# Altium footprint library DB_CONN.PcbLib: 18 footprints (part 2 of 2)
Each footprint in its own frame and in the unit in brackets; x right, y up, seen from the top. Pads: shape width x height; smd on the part's side, far side on the other; paste and mask are expansions set on the pad; w line width, h text height; cw(c..) or ccw(c..) is an arc to the next point about the centre after c.
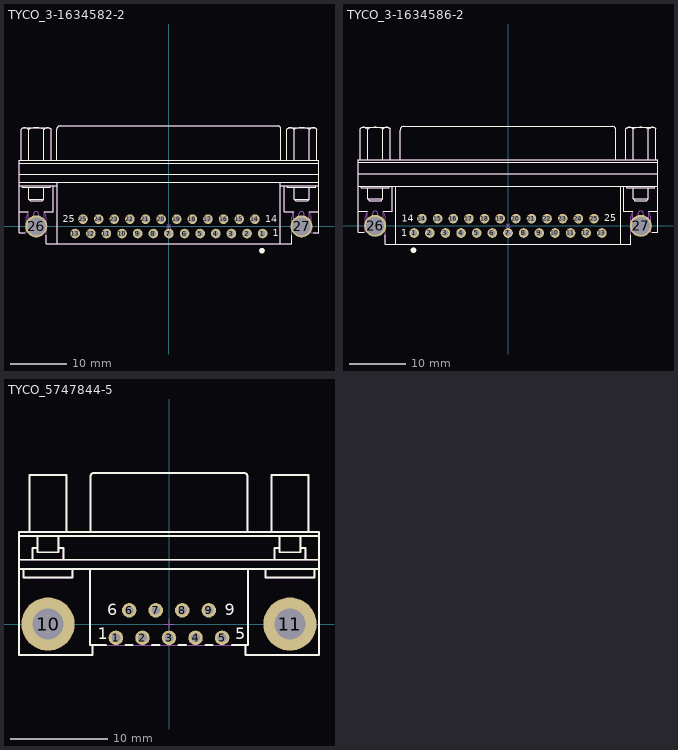
[diagram p1: the footprints below, top view; thin cyan lines are the x and y axes]

## TYCO_3-1634582-2 [mm] "Right Angle 25 Male Contacts D-SUB Connector With Boardlock and 4-40 UNC Screwlocks"
height 13.575
pads (27):
  round 1.7 hole 1: 1(16.62,-1.27) 2(13.85,-1.27) 3(11.08,-1.27) 4(8.31,-1.27) 5(5.54,-1.27) 6(2.77,-1.27) 7(0,-1.27) 8(-2.77,-1.27) 9(-5.54,-1.27) 10(-8.31,-1.27) 11(-11.08,-1.27) 12(-13.85,-1.27) 13(-16.62,-1.27) 14(15.235,1.27) 15(12.465,1.27) 16(9.695,1.27) 17(6.925,1.27) 18(4.155,1.27) 19(1.385,1.27) 20(-1.385,1.27) 21(-4.155,1.27) 22(-6.925,1.27) 23(-9.695,1.27) 24(-12.465,1.27) 25(-15.235,1.27)
  round 3.9 hole 3.2: 26(-23.52,0) 27(23.52,0)
Top Overlay:
  circle w0.5: c16.495,-4.305 r0.25
  lines w0.2: -26.567,2.62 -24.927,2.62 ; -26.567,7.21 -19.772,7.21 ; -26.567,7.85 26.533,7.85 ; -26.567,11.23 26.533,11.23 ; -26.525,9.2 26.533,9.2 ; -26.187,11.7 -26.187,17.2 -25.887,17.5 -21.187,17.5 -20.889,17.2 ; -26.184,17.2 cw(c-25.495,16.568) -25.572,17.5 cw(c-25.649,16.568) -24.959,17.2 -24.761,17.2 cw(c-23.537,14.767) -22.312,17.2 -22.114,17.2 cw(c-21.424,16.568) -21.501,17.5 cw(c-21.579,16.568) -20.889,17.2 ; -26.037,7.21 -26.037,6.96 -21.037,6.96 -21.037,7.21 ; -25.569,-1.15 -26.567,-1.15 -26.567,11.7 26.533,11.7 26.533,-1.15 25.569,-1.15 ; -24.877,6.96 -24.877,4.8 ; -24.862,11.7 -24.862,17.2 ; -22.212,11.7 -22.212,17.2 ; -22.197,6.96 -22.197,4.8 ; -22.147,2.62 -20.507,2.62 -20.507,7.21 ; -21.777,-1.576 -21.777,-3.08 21.743,-3.08 21.743,-1.538 ; -20.889,11.7 -20.889,17.2 ; -19.894,11.7 -19.894,17.2 cw(c-19.294,17.2) -19.294,17.8 19.263,17.8 cw(c19.263,17.2) 19.863,17.2 19.863,11.7 ; -19.772,-3.08 -19.772,7.85 ; 19.738,-3.08 19.738,7.85 ; 19.738,7.21 26.533,7.21 ; 20.473,7.21 20.473,2.62 22.113,2.62 ; 20.913,11.7 20.913,17.209 21.213,17.509 25.913,17.509 26.211,17.209 ; 20.916,17.209 cw(c21.605,16.577) 21.528,17.509 cw(c21.451,16.577) 22.141,17.209 22.339,17.209 cw(c23.563,14.777) 24.788,17.209 24.986,17.209 cw(c25.676,16.577) 25.599,17.509 cw(c25.522,16.577) 26.211,17.209 ; 21.003,7.21 21.003,6.96 26.003,6.96 26.003,7.21 ; 22.223,6.96 22.223,4.8 ; 22.238,11.7 22.238,17.209 ; 24.888,11.7 24.888,17.209 ; 24.893,2.62 26.533,2.62 ; 24.903,6.96 24.903,4.8 ; 26.211,11.7 26.211,17.209 ; -24.877,4.8 -24.577,4.5 -22.497,4.5 -22.197,4.8 ; -24.877,4.8 -22.197,4.8 ; 22.223,4.8 22.523,4.5 24.603,4.5 24.903,4.8 ; 22.223,4.8 24.903,4.8
  text "14" at 17.04,0.77 h1.2
  text "25" at -18.86,0.72 h1.2
  text "1" at 18.425,-1.77 h1.2
Mechanical 8:
  lines w0.1: -24.02,0 -23.52,0 ; -23.52,-0.5 -23.52,0 ; -23.52,0.5 -23.52,0 ; -23.02,0 -23.52,0 ; -17.12,-1.27 -16.62,-1.27 ; -16.62,-1.77 -16.62,-1.27 ; -16.62,-0.77 -16.62,-1.27 ; -16.12,-1.27 -16.62,-1.27 ; -15.735,1.27 -15.235,1.27 ; -15.235,0.77 -15.235,1.27 ; -15.235,1.77 -15.235,1.27 ; -14.735,1.27 -15.235,1.27 ; -14.35,-1.27 -13.85,-1.27 ; -13.85,-1.77 -13.85,-1.27 ; -13.85,-0.77 -13.85,-1.27 ; -13.35,-1.27 -13.85,-1.27 ; -12.965,1.27 -12.465,1.27 ; -12.465,0.77 -12.465,1.27 ; -12.465,1.77 -12.465,1.27 ; -11.965,1.27 -12.465,1.27 ; -11.58,-1.27 -11.08,-1.27 ; -11.08,-1.77 -11.08,-1.27 ; -11.08,-0.77 -11.08,-1.27 ; -10.58,-1.27 -11.08,-1.27 ; -10.195,1.27 -9.695,1.27 ; -9.695,0.77 -9.695,1.27 ; -9.695,1.77 -9.695,1.27 ; -9.195,1.27 -9.695,1.27 ; -8.81,-1.27 -8.31,-1.27 ; -8.31,-1.77 -8.31,-1.27 ; -8.31,-0.77 -8.31,-1.27 ; -7.81,-1.27 -8.31,-1.27 ; -7.425,1.27 -6.925,1.27 ; -6.925,0.77 -6.925,1.27 ; -6.925,1.77 -6.925,1.27 ; -6.425,1.27 -6.925,1.27 ; -6.04,-1.27 -5.54,-1.27 ; -5.54,-1.77 -5.54,-1.27 ; -5.54,-0.77 -5.54,-1.27 ; -5.04,-1.27 -5.54,-1.27 ; -4.655,1.27 -4.155,1.27 ; -4.155,0.77 -4.155,1.27 ; -4.155,1.77 -4.155,1.27 ; -3.655,1.27 -4.155,1.27 ; -3.27,-1.27 -2.77,-1.27 ; -2.77,-1.77 -2.77,-1.27 ; -2.77,-0.77 -2.77,-1.27 ; -2.27,-1.27 -2.77,-1.27 ; -1.885,1.27 -1.385,1.27 ; -1.385,0.77 -1.385,1.27 ; -1.385,1.77 -1.385,1.27 ; -0.885,1.27 -1.385,1.27 ; -0.5,-1.27 0,-1.27 ; -0.354,-0.354 0,0 ; -0.354,0.354 0,0 ; 0,-1.77 0,-1.27 ; 0,-0.77 0,-1.27 ; 0.354,-0.354 0,0 ; 0.354,0.354 0,0 ; 0.5,-1.27 0,-1.27 ; 0.885,1.27 1.385,1.27 ; 1.385,0.77 1.385,1.27 ; 1.385,1.77 1.385,1.27 ; 1.885,1.27 1.385,1.27 ; 2.27,-1.27 2.77,-1.27 ; 2.77,-1.77 2.77,-1.27 ; 2.77,-0.77 2.77,-1.27 ; 3.27,-1.27 2.77,-1.27 ; 3.655,1.27 4.155,1.27 ; 4.155,0.77 4.155,1.27 ; 4.155,1.77 4.155,1.27 ; 4.655,1.27 4.155,1.27 ; 5.04,-1.27 5.54,-1.27 ; 5.54,-1.77 5.54,-1.27 ; 5.54,-0.77 5.54,-1.27 ; 6.04,-1.27 5.54,-1.27 ; 6.425,1.27 6.925,1.27 ; 6.925,0.77 6.925,1.27 ; 6.925,1.77 6.925,1.27 ; 7.425,1.27 6.925,1.27 ; 7.81,-1.27 8.31,-1.27 ; 8.31,-1.77 8.31,-1.27 ; 8.31,-0.77 8.31,-1.27 ; 8.81,-1.27 8.31,-1.27 ; 9.195,1.27 9.695,1.27 ; 9.695,0.77 9.695,1.27 ; 9.695,1.77 9.695,1.27 ; 10.195,1.27 9.695,1.27 ; 10.58,-1.27 11.08,-1.27 ; 11.08,-1.77 11.08,-1.27 ; 11.08,-0.77 11.08,-1.27 ; 11.58,-1.27 11.08,-1.27 ; 11.965,1.27 12.465,1.27 ; 12.465,0.77 12.465,1.27 ; 12.465,1.77 12.465,1.27 ; 12.965,1.27 12.465,1.27 ; 13.35,-1.27 13.85,-1.27 ; 13.85,-1.77 13.85,-1.27 ; 13.85,-0.77 13.85,-1.27 ; 14.35,-1.27 13.85,-1.27 ; 14.735,1.27 15.235,1.27 ; 15.235,0.77 15.235,1.27 ; 15.235,1.77 15.235,1.27 ; 15.735,1.27 15.235,1.27 ; 16.12,-1.27 16.62,-1.27 ; 16.62,-1.77 16.62,-1.27 ; 16.62,-0.77 16.62,-1.27 ; 17.12,-1.27 16.62,-1.27 ; 23.02,0 23.52,0 ; 23.52,-0.5 23.52,0 ; 23.52,0.5 23.52,0 ; 24.02,0 23.52,0
Mechanical 14:
  lines w0.1: -26.567,2.62 -24.927,2.62 -24.927,-0.32 -23.987,-0.32 -23.987,2.17 cw(c-23.537,2.17) -23.087,2.17 -23.087,-0.32 -22.147,-0.32 -22.147,2.62 -20.507,2.62 -20.507,7.21 ; -26.567,7.21 -19.772,7.21 ; -26.567,7.85 26.533,7.85 ; -26.567,11.23 26.533,11.23 ; -26.525,9.2 26.533,9.2 ; -26.187,11.7 -26.187,17.2 -25.887,17.5 -21.187,17.5 -20.889,17.2 ; -26.184,17.2 cw(c-25.495,16.568) -25.572,17.5 cw(c-25.649,16.568) -24.959,17.2 -24.761,17.2 cw(c-23.537,14.767) -22.312,17.2 -22.114,17.2 cw(c-21.424,16.568) -21.501,17.5 cw(c-21.579,16.568) -20.889,17.2 ; -26.037,7.21 -26.037,6.96 -21.037,6.96 -21.037,7.21 ; -24.927,2.6 ccw(c-23.537,1.52) -25.297,1.52 -25.297,-1.15 -26.567,-1.15 -26.567,11.7 26.533,11.7 26.533,-1.15 25.263,-1.15 25.263,1.52 ccw(c23.503,1.52) 24.893,2.6 ; -24.877,6.96 -24.877,4.8 ; -24.862,11.7 -24.862,17.2 ; -22.212,11.7 -22.212,17.2 ; -22.197,6.96 -22.197,4.8 ; -22.147,2.6 cw(c-23.537,1.52) -21.777,1.52 -21.777,-3.08 21.743,-3.08 21.743,1.52 cw(c23.503,1.52) 22.113,2.6 ; -20.889,11.7 -20.889,17.2 ; -19.894,11.7 -19.894,17.2 cw(c-19.294,17.2) -19.294,17.8 19.263,17.8 cw(c19.263,17.2) 19.863,17.2 19.863,11.7 ; -19.772,-3.08 -19.772,7.85 ; 19.738,-3.08 19.738,7.85 ; 19.738,7.21 26.533,7.21 ; 20.473,7.21 20.473,2.62 22.113,2.62 22.113,-0.318 23.053,-0.32 23.053,2.17 cw(c23.503,2.17) 23.953,2.17 23.953,-0.32 24.893,-0.32 24.893,2.62 26.533,2.62 ; 20.913,11.7 20.913,17.209 21.213,17.509 25.913,17.509 26.211,17.209 ; 20.916,17.209 cw(c21.605,16.577) 21.528,17.509 cw(c21.451,16.577) 22.141,17.209 22.339,17.209 cw(c23.563,14.777) 24.788,17.209 24.986,17.209 cw(c25.676,16.577) 25.599,17.509 cw(c25.522,16.577) 26.211,17.209 ; 21.003,7.21 21.003,6.96 26.003,6.96 26.003,7.21 ; 22.223,6.96 22.223,4.8 ; 22.238,11.7 22.238,17.209 ; 24.888,11.7 24.888,17.209 ; 24.903,6.96 24.903,4.8 ; 26.211,11.7 26.211,17.209 ; -24.877,4.8 -24.577,4.5 -22.497,4.5 -22.197,4.8 ; -24.877,4.8 -22.197,4.8 ; 22.223,4.8 22.523,4.5 24.603,4.5 24.903,4.8 ; 22.223,4.8 24.903,4.8
  text "14" at 17.04,0.77 h1.2
  text "25" at -18.86,0.72 h1.2
  text "1" at 18.425,-1.77 h1.2
3D body "TYCO_3-1634582-2.stp": height 13.57, standoff -3.8, extent -26.567,-3.08 26.533,17.8

## TYCO_3-1634586-2 [mm] "Right Angle 25 Female Contacts D-SUB Connector With Boardlock and 4-40 UNC Screwlocks"
height 13.575
pads (27):
  round 1.7 hole 1: 1(-16.62,-1.27) 2(-13.85,-1.27) 3(-11.08,-1.27) 4(-8.31,-1.27) 5(-5.54,-1.27) 6(-2.77,-1.27) 7(0,-1.27) 8(2.77,-1.27) 9(5.54,-1.27) 10(8.31,-1.27) 11(11.08,-1.27) 12(13.85,-1.27) 13(16.62,-1.27) 14(-15.235,1.27) 15(-12.465,1.27) 16(-9.695,1.27) 17(-6.925,1.27) 18(-4.155,1.27) 19(-1.385,1.27) 20(1.385,1.27) 21(4.155,1.27) 22(6.925,1.27) 23(9.695,1.27) 24(12.465,1.27) 25(15.235,1.27)
  round 3.9 hole 3.2: 26(-23.52,0) 27(23.52,0)
Top Overlay:
  circle w0.5: c-16.745,-4.305 r0.25
  lines w0.2: -26.55,2.62 -24.91,2.62 ; -26.55,7.01 26.55,7.01 ; -26.55,11.23 26.55,11.23 ; -26.508,9.2 26.55,9.2 ; -26.17,11.7 -26.17,17.15 -25.87,17.45 -21.17,17.45 -20.872,17.15 ; -26.168,17.15 cw(c-25.478,16.518) -25.555,17.45 cw(c-25.632,16.518) -24.943,17.15 -24.745,17.15 cw(c-23.52,14.717) -22.295,17.15 -22.097,17.15 cw(c-21.408,16.518) -21.485,17.45 cw(c-21.562,16.518) -20.872,17.15 ; -26.02,7.01 -26.02,6.76 -21.02,6.76 -21.02,7.01 ; -25.569,-1.15 -26.55,-1.15 -26.55,11.7 26.55,11.7 26.55,-1.15 25.569,-1.15 ; -24.86,6.76 -24.86,4.76 ; -24.845,11.7 -24.845,17.15 ; -22.195,11.7 -22.195,17.15 ; -22.18,6.76 -22.18,4.76 ; -22.13,2.62 -20.49,2.62 -20.49,7.01 ; -21.76,-1.557 -21.76,-3.28 21.76,-3.28 21.76,-1.557 ; -20.872,11.7 -20.872,17.15 ; -19.89,-3.28 -19.89,7.01 ; -19.11,11.7 -19.11,16.93 cw(c-18.445,16.935) -18.45,17.6 18.45,17.6 cw(c18.445,16.935) 19.11,16.93 19.11,11.7 ; 19.93,-3.28 19.93,7.01 ; 20.49,7.01 20.49,2.62 22.13,2.62 ; 20.87,11.7 20.87,17.15 21.17,17.45 25.87,17.45 26.168,17.15 ; 20.872,17.15 cw(c21.562,16.518) 21.485,17.45 cw(c21.408,16.518) 22.097,17.15 22.295,17.15 cw(c23.52,14.717) 24.745,17.15 24.943,17.15 cw(c25.632,16.518) 25.555,17.45 cw(c25.478,16.518) 26.168,17.15 ; 21.02,7.01 21.02,6.76 26.02,6.76 26.02,7.01 ; 22.18,6.76 22.18,4.76 ; 22.195,11.7 22.195,17.15 ; 24.845,11.7 24.845,17.15 ; 24.86,6.76 24.86,4.76 ; 24.91,2.62 26.55,2.62 ; 26.168,11.7 26.168,17.15 ; -24.86,4.76 -22.18,4.76 ; -24.86,4.76 -24.56,4.46 -22.48,4.46 -22.18,4.76 ; 22.18,4.76 24.86,4.76 ; 22.18,4.76 22.48,4.46 24.56,4.46 24.86,4.76
  text "25" at 17.04,0.77 h1.2
  text "14" at -18.86,0.72 h1.2
  text "1" at -18.885,-1.88 h1.2
Mechanical 8:
  lines w0.1: -24.02,0 -23.52,0 ; -23.52,-0.5 -23.52,0 ; -23.52,0.5 -23.52,0 ; -23.02,0 -23.52,0 ; -17.12,-1.27 -16.62,-1.27 ; -16.62,-1.77 -16.62,-1.27 ; -16.62,-0.77 -16.62,-1.27 ; -16.12,-1.27 -16.62,-1.27 ; -15.735,1.27 -15.235,1.27 ; -15.235,0.77 -15.235,1.27 ; -15.235,1.77 -15.235,1.27 ; -14.735,1.27 -15.235,1.27 ; -14.35,-1.27 -13.85,-1.27 ; -13.85,-1.77 -13.85,-1.27 ; -13.85,-0.77 -13.85,-1.27 ; -13.35,-1.27 -13.85,-1.27 ; -12.965,1.27 -12.465,1.27 ; -12.465,0.77 -12.465,1.27 ; -12.465,1.77 -12.465,1.27 ; -11.965,1.27 -12.465,1.27 ; -11.58,-1.27 -11.08,-1.27 ; -11.08,-1.77 -11.08,-1.27 ; -11.08,-0.77 -11.08,-1.27 ; -10.58,-1.27 -11.08,-1.27 ; -10.195,1.27 -9.695,1.27 ; -9.695,0.77 -9.695,1.27 ; -9.695,1.77 -9.695,1.27 ; -9.195,1.27 -9.695,1.27 ; -8.81,-1.27 -8.31,-1.27 ; -8.31,-1.77 -8.31,-1.27 ; -8.31,-0.77 -8.31,-1.27 ; -7.81,-1.27 -8.31,-1.27 ; -7.425,1.27 -6.925,1.27 ; -6.925,0.77 -6.925,1.27 ; -6.925,1.77 -6.925,1.27 ; -6.425,1.27 -6.925,1.27 ; -6.04,-1.27 -5.54,-1.27 ; -5.54,-1.77 -5.54,-1.27 ; -5.54,-0.77 -5.54,-1.27 ; -5.04,-1.27 -5.54,-1.27 ; -4.655,1.27 -4.155,1.27 ; -4.155,0.77 -4.155,1.27 ; -4.155,1.77 -4.155,1.27 ; -3.655,1.27 -4.155,1.27 ; -3.27,-1.27 -2.77,-1.27 ; -2.77,-1.77 -2.77,-1.27 ; -2.77,-0.77 -2.77,-1.27 ; -2.27,-1.27 -2.77,-1.27 ; -1.885,1.27 -1.385,1.27 ; -1.385,0.77 -1.385,1.27 ; -1.385,1.77 -1.385,1.27 ; -0.885,1.27 -1.385,1.27 ; -0.5,-1.27 0,-1.27 ; -0.354,-0.354 0,0 ; -0.354,0.354 0,0 ; 0,-1.77 0,-1.27 ; 0,-0.77 0,-1.27 ; 0.354,-0.354 0,0 ; 0.354,0.354 0,0 ; 0.5,-1.27 0,-1.27 ; 0.885,1.27 1.385,1.27 ; 1.385,0.77 1.385,1.27 ; 1.385,1.77 1.385,1.27 ; 1.885,1.27 1.385,1.27 ; 2.27,-1.27 2.77,-1.27 ; 2.77,-1.77 2.77,-1.27 ; 2.77,-0.77 2.77,-1.27 ; 3.27,-1.27 2.77,-1.27 ; 3.655,1.27 4.155,1.27 ; 4.155,0.77 4.155,1.27 ; 4.155,1.77 4.155,1.27 ; 4.655,1.27 4.155,1.27 ; 5.04,-1.27 5.54,-1.27 ; 5.54,-1.77 5.54,-1.27 ; 5.54,-0.77 5.54,-1.27 ; 6.04,-1.27 5.54,-1.27 ; 6.425,1.27 6.925,1.27 ; 6.925,0.77 6.925,1.27 ; 6.925,1.77 6.925,1.27 ; 7.425,1.27 6.925,1.27 ; 7.81,-1.27 8.31,-1.27 ; 8.31,-1.77 8.31,-1.27 ; 8.31,-0.77 8.31,-1.27 ; 8.81,-1.27 8.31,-1.27 ; 9.195,1.27 9.695,1.27 ; 9.695,0.77 9.695,1.27 ; 9.695,1.77 9.695,1.27 ; 10.195,1.27 9.695,1.27 ; 10.58,-1.27 11.08,-1.27 ; 11.08,-1.77 11.08,-1.27 ; 11.08,-0.77 11.08,-1.27 ; 11.58,-1.27 11.08,-1.27 ; 11.965,1.27 12.465,1.27 ; 12.465,0.77 12.465,1.27 ; 12.465,1.77 12.465,1.27 ; 12.965,1.27 12.465,1.27 ; 13.35,-1.27 13.85,-1.27 ; 13.85,-1.77 13.85,-1.27 ; 13.85,-0.77 13.85,-1.27 ; 14.35,-1.27 13.85,-1.27 ; 14.735,1.27 15.235,1.27 ; 15.235,0.77 15.235,1.27 ; 15.235,1.77 15.235,1.27 ; 15.735,1.27 15.235,1.27 ; 16.12,-1.27 16.62,-1.27 ; 16.62,-1.77 16.62,-1.27 ; 16.62,-0.77 16.62,-1.27 ; 17.12,-1.27 16.62,-1.27 ; 23.02,0 23.52,0 ; 23.52,-0.5 23.52,0 ; 23.52,0.5 23.52,0 ; 24.02,0 23.52,0
Mechanical 14:
  lines w0.1: -26.55,2.62 -24.91,2.62 -24.91,-0.318 -23.97,-0.32 -23.97,2.17 cw(c-23.52,2.17) -23.07,2.17 -23.07,-0.316 -22.13,-0.32 -22.13,2.62 -20.49,2.62 -20.49,7.01 ; -26.55,7.01 26.55,7.01 ; -26.55,11.23 26.55,11.23 ; -26.508,9.2 26.55,9.2 ; -26.17,11.7 -26.17,17.15 -25.87,17.45 -21.17,17.45 -20.872,17.15 ; -26.168,17.15 cw(c-25.478,16.518) -25.555,17.45 cw(c-25.632,16.518) -24.943,17.15 -24.745,17.15 cw(c-23.52,14.717) -22.295,17.15 -22.097,17.15 cw(c-21.408,16.518) -21.485,17.45 cw(c-21.562,16.518) -20.872,17.15 ; -26.02,7.01 -26.02,6.76 -21.02,6.76 -21.02,7.01 ; -24.91,2.6 ccw(c-23.52,1.52) -25.28,1.52 -25.28,-1.15 -26.55,-1.15 -26.55,11.7 26.55,11.7 26.55,-1.15 25.28,-1.15 25.28,1.52 ccw(c23.52,1.52) 24.91,2.6 ; -24.86,6.76 -24.86,4.76 ; -24.845,11.7 -24.845,17.15 ; -22.195,11.7 -22.195,17.15 ; -22.18,6.76 -22.18,4.76 ; -22.13,2.6 cw(c-23.52,1.52) -21.76,1.52 -21.76,-3.28 21.76,-3.28 21.76,1.52 cw(c23.52,1.52) 22.13,2.6 ; -20.872,11.7 -20.872,17.15 ; -19.89,-3.28 -19.89,7.01 ; -19.11,11.7 -19.11,16.93 cw(c-18.445,16.935) -18.45,17.6 18.45,17.6 cw(c18.445,16.935) 19.11,16.93 19.11,11.7 ; 19.93,-3.28 19.93,7.01 ; 20.49,7.01 20.49,2.62 22.13,2.62 22.13,-0.32 23.07,-0.32 23.07,2.17 cw(c23.52,2.17) 23.97,2.17 23.97,-0.32 24.91,-0.32 24.91,2.62 26.55,2.62 ; 20.87,11.7 20.87,17.15 21.17,17.45 25.87,17.45 26.168,17.15 ; 20.872,17.15 cw(c21.562,16.518) 21.485,17.45 cw(c21.408,16.518) 22.097,17.15 22.295,17.15 cw(c23.52,14.717) 24.745,17.15 24.943,17.15 cw(c25.632,16.518) 25.555,17.45 cw(c25.478,16.518) 26.168,17.15 ; 21.02,7.01 21.02,6.76 26.02,6.76 26.02,7.01 ; 22.18,6.76 22.18,4.76 ; 22.195,11.7 22.195,17.15 ; 24.845,11.7 24.845,17.15 ; 24.86,6.76 24.86,4.76 ; 26.168,11.7 26.168,17.15 ; -24.86,4.76 -22.18,4.76 ; -24.86,4.76 -24.56,4.46 -22.48,4.46 -22.18,4.76 ; 22.18,4.76 24.86,4.76 ; 22.18,4.76 22.48,4.46 24.56,4.46 24.86,4.76
  text "25" at 17.04,0.77 h1.2
  text "14" at -18.86,0.72 h1.2
  text "1" at -18.885,-1.88 h1.2
3D body "TYCO_3-1634586-2.stp": height 13.57, standoff -3.77, extent -26.55,-3.28 26.55,17.6

## TYCO_5747844-5 [mm] "Right Angle 9 Female Contacts D-SUB Connector With PCB Mount Retention , Grounding Straps, and Fixed UNC 4-40 Female Screwlocks"
height 12.92
pads (11):
  round 1.5 hole 0.9: 1(-5.48,-1.422) 2(-2.74,-1.422) 3(0,-1.422) 4(2.74,-1.422) 5(5.48,-1.422) 6(-4.11,1.422) 7(-1.37,1.422) 8(1.37,1.422) 9(4.11,1.422)
  round 5.5 hole 3.2 unplated: 10(-12.495,0)
  round 5.5 hole 3.2: 11(12.495,0)
Top Overlay:
  lines w0.2: -15.494,5.679 15.494,5.679 ; -15.494,6.645 15.494,6.645 ; -15.494,9.108 15.494,9.108 ; -15.011,5.679 -15.011,4.79 -9.982,4.79 -9.982,5.679 ; -14.402,9.525 -14.402,15.408 -10.592,15.408 -10.592,9.525 ; -14.084,6.645 -14.084,7.838 -13.576,7.838 ; -13.576,9.108 -13.576,7.422 -11.417,7.422 -11.417,9.108 ; -11.417,7.838 -10.909,7.838 -10.909,6.645 ; -8.153,5.679 -8.153,-2.169 -6.482,-2.169 ; -8.1,9.525 -8.1,15.296 cw(c-7.8,15.296) -7.8,15.596 7.8,15.596 cw(c7.8,15.296) 8.1,15.296 8.1,9.525 ; -7.899,-2.169 -7.899,-3.185 -15.494,-3.185 -15.494,9.525 15.494,9.525 15.494,-3.185 7.899,-3.185 7.899,-2.169 ; -4.478,-2.169 -3.742,-2.169 ; -1.738,-2.169 -1.002,-2.169 ; 1.002,-2.169 1.738,-2.169 ; 3.742,-2.169 4.478,-2.169 ; 6.482,-2.169 8.153,-2.169 8.153,5.679 ; 9.982,5.679 9.982,4.79 15.011,4.79 15.011,5.679 ; 10.592,9.525 10.592,15.408 14.402,15.408 14.402,9.525 ; 10.909,6.645 10.909,7.838 11.417,7.838 ; 11.417,9.108 11.417,7.422 13.576,7.422 13.576,9.108 ; 13.576,7.838 14.084,7.838 14.084,6.645
  text "6" at -6.375,0.925 h1.2
  text "5" at 6.85,-1.575 h1.2
  text "1" at -7.35,-1.575 h1.2
  text "9" at 5.75,0.925 h1.2
Mechanical 8:
  circle w0.1: c-12.495,0 r1.6
  circle w0.1: c12.495,0 r1.6
  circle w0.1: c-4.11,1.422 r0.5
  circle w0.1: c-5.48,-1.422 r0.5
  circle w0.1: c4.11,1.422 r0.5
  circle w0.1: c5.48,-1.422 r0.5
  lines w0.1: -12.995,0 -12.495,0 ; -12.495,-0.5 -12.495,0 ; -12.495,0.5 -12.495,0 ; -11.995,0 -12.495,0 ; -5.98,-1.422 -5.48,-1.422 ; -5.48,-1.922 -5.48,-1.422 ; -5.48,-0.922 -5.48,-1.422 ; -4.98,-1.422 -5.48,-1.422 ; -4.61,1.422 -4.11,1.422 ; -4.11,0.922 -4.11,1.422 ; -4.11,1.922 -4.11,1.422 ; -3.61,1.422 -4.11,1.422 ; -3.24,-1.422 -2.74,-1.422 ; -2.74,-1.922 -2.74,-1.422 ; -2.74,-0.922 -2.74,-1.422 ; -2.24,-1.422 -2.74,-1.422 ; -1.87,1.422 -1.37,1.422 ; -1.37,0.922 -1.37,1.422 ; -1.37,1.922 -1.37,1.422 ; -0.87,1.422 -1.37,1.422 ; -0.5,-1.422 0,-1.422 ; -0.5,0 0,0 ; 0,-1.922 0,-1.422 ; 0,-0.922 0,-1.422 ; 0,-0.5 0,0 ; 0,0.5 0,0 ; 0.5,-1.422 0,-1.422 ; 0.5,0 0,0 ; 0.87,1.422 1.37,1.422 ; 1.37,0.922 1.37,1.422 ; 1.37,1.922 1.37,1.422 ; 1.87,1.422 1.37,1.422 ; 2.24,-1.422 2.74,-1.422 ; 2.74,-1.922 2.74,-1.422 ; 2.74,-0.922 2.74,-1.422 ; 3.24,-1.422 2.74,-1.422 ; 3.61,1.422 4.11,1.422 ; 4.11,0.922 4.11,1.422 ; 4.11,1.922 4.11,1.422 ; 4.61,1.422 4.11,1.422 ; 4.98,-1.422 5.48,-1.422 ; 5.48,-1.922 5.48,-1.422 ; 5.48,-0.922 5.48,-1.422 ; 5.98,-1.422 5.48,-1.422 ; 11.995,0 12.495,0 ; 12.495,-0.5 12.495,0 ; 12.495,0.5 12.495,0 ; 12.995,0 12.495,0
Mechanical 14:
  circle w0.1: c-12.497,0 r1.854
  circle w0.1: c-12.497,0 r1.549
  circle w0.1: c12.497,0 r1.854
  circle w0.1: c12.497,0 r1.549
  lines w0.1: -15.494,5.679 15.494,5.679 ; -15.494,6.645 15.494,6.645 ; -15.494,9.108 15.494,9.108 ; -15.011,5.679 -15.011,4.79 -9.982,4.79 -9.982,5.679 ; -14.402,9.525 -14.402,15.408 -10.592,15.408 -10.592,9.525 ; -14.084,6.645 -14.084,7.838 -13.576,7.838 ; -13.576,9.108 -13.576,7.422 -11.417,7.422 -11.417,9.108 ; -11.417,7.838 -10.909,7.838 -10.909,6.645 ; -8.153,5.679 -8.153,-2.169 8.153,-2.169 8.153,5.679 ; -8.1,9.525 -8.1,15.296 cw(c-7.8,15.296) -7.8,15.596 7.8,15.596 cw(c7.8,15.296) 8.1,15.296 8.1,9.525 ; -7.899,-2.169 -7.899,-3.185 -15.494,-3.185 -15.494,9.525 15.494,9.525 15.494,-3.185 7.899,-3.185 7.899,-2.169 ; 9.982,5.679 9.982,4.79 15.011,4.79 15.011,5.679 ; 10.592,9.525 10.592,15.408 14.402,15.408 14.402,9.525 ; 10.909,6.645 10.909,7.838 11.417,7.838 ; 11.417,9.108 11.417,7.422 13.576,7.422 13.576,9.108 ; 13.576,7.838 14.084,7.838 14.084,6.645
  text "9" at 5.75,0.925 h1.2
  text "1" at -7.35,-1.575 h1.2
  text "5" at 6.85,-1.575 h1.2
  text "6" at -6.375,0.925 h1.2
3D body "TYCO_5747844-5.stp": height 12.55, standoff -3.26, extent -15.494,-3.185 15.494,15.71